# Altium integrated library ARM2toARM3Adapter.IntLib: 7 symbols
Pins are listed as number, name and electrical type; pins without a type are passive.

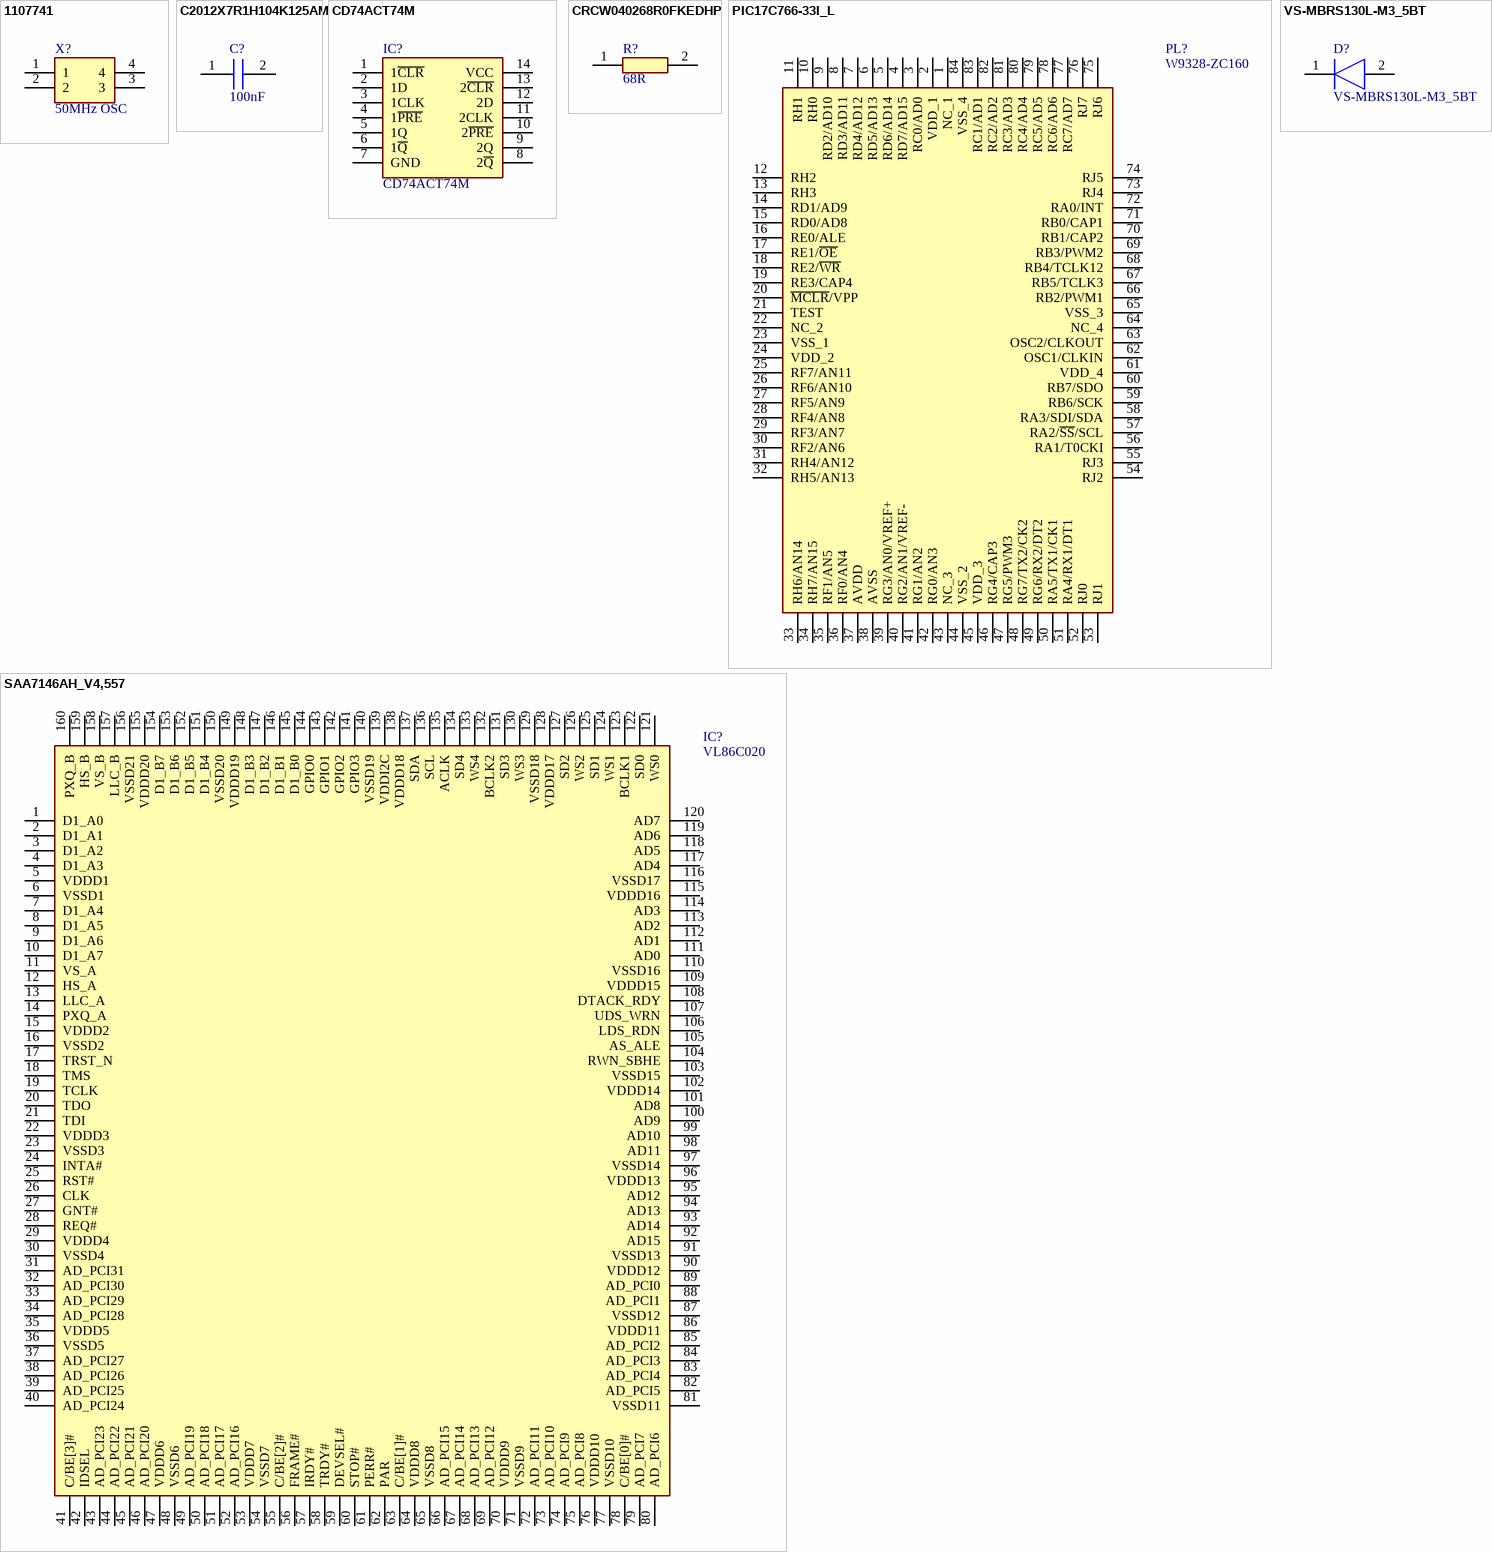
[diagram p0: symbols 1107741 to VS-MBRS130L-M3_5BT]

## 1107741
designator X?, comment 50MHz OSC
Manufacturer_Name: ARIES; Manufacturer_Part_Number: 1107741; Datasheet Link: http://docs-emea.rs-online.com/webdocs/13f3/0900766b813f3237.pdf; Height: 2.41mm; Mouser Part Number: 535-1107741; Mouser Price/Stock: https://www.mouser.co.uk/ProductDetail/Aries-Electronics/1107741?qs=WZRMhwwaLl%2FApwqojhfzdA%3D%3D
footprint DIPS762W56P1524L1778H241Q4N
pins: 1, 2, 3, 4

## C2012X7R1H104K125AM
designator C?, comment 100nF
Capacitor; Manufacturer_Name: TDK; Manufacturer_Part_Number: C2012X7R1H104K125AM; Datasheet Link: https://product.tdk.com/info/en/catalog/datasheets/mlcc_commercial_midvoltage_en.pdf; Height: 1.45mm; Mouser Part Number: 810-C2012X7R1H104KT5; Mouser Price/Stock: https://www.mouser.com/Search/Refine.aspx?Keyword=810-C2012X7R1H104KT5; Arrow Part Number: C2012X7R1H104K125AM; Arrow Price/Stock: https://www.arrow.com/en/products/c2012x7r1h104k125am/tdk
footprint CAPC2012X145N
pins: 1, 2

## CD74ACT74M
designator IC?
Integrated Circuit; Manufacturer_Name: Texas Instruments; Datasheet Link: http://www.ti.com/lit/ds/symlink/cd74act74.pdf; Height: 1.75mm; Manufacturer_Part_Number: CD74ACT74M; Mouser Part Number: 595-CD74ACT74M; Mouser Price/Stock: https://www.mouser.com/Search/Refine.aspx?Keyword=595-CD74ACT74M
footprint SOIC127P600X175-14N
pins: 1 1~{CLR}, 2 1D, 3 1CLK, 4 1~{PRE}, 5 1Q, 6 1~{Q}, 7 GND, 8 2~{Q}, 9 2Q, 10 2~{PRE}, 11 2CLK, 12 2D, 13 2~{CLR}, 14 VCC

## CRCW040268R0FKEDHP
designator R?, comment 68R
Resistor; Manufacturer_Name: Vishay; Manufacturer_Part_Number: CRCW040268R0FKEDHP; Datasheet Link: http://www.vishay.com/docs/20035/dcrcwe3.pdf; Height: 0.4mm; Mouser Part Number: 71-CRCW040268R0FKEDH; Mouser Price/Stock: https://www.mouser.co.uk/ProductDetail/Vishay-Dale/CRCW040268R0FKEDHP?qs=YaA%252B3EhhSt26vU44iyW%252BOw%3D%3D; Arrow Part Number: CRCW040268R0FKEDHP; Arrow Price/Stock: https://www.arrow.com/en/products/crcw040268r0fkedhp/vishay
footprint RESC1005X40N
pins: 1, 2

## PIC17C766-33I_L
designator PL?, comment W9328-ZC160
Integrated Circuit; Manufacturer_Name: Microchip; Manufacturer_Part_Number: PIC17C766-33I/L; Datasheet Link: http://ww1.microchip.com/downloads/en/DeviceDoc/30289C.pdf; Height: 5.08mm; Mouser Part Number: 579-PIC17C766-33I/L; Mouser Price/Stock: https://www.mouser.co.uk/ProductDetail/Microchip-Technology/PIC17C766-33I-L?qs=hul3WK2zl4oVyJslf52qIw%3D%3D
footprint PLCC127P3023X3023X508-84N; pin to pad 2>84 3>83 4>82 5>81 6>80 7>79 8>78 9>77 10>76 11>75 12>74 13>73 14>72 15>71 16>70 17>69 18>68 19>67 20>66 21>65 22>64 23>63 24>62 25>61 26>60 27>59 28>58 29>57 30>56 31>55 32>54 33>53 34>52 35>51 36>50 37>49 38>48 39>47 40>46 41>45 42>44 44>42 45>41 46>40 47>39 48>38 49>37 50>36 51>35 52>34 53>33 54>32 55>31 56>30 57>29 58>28 59>27 60>26 61>25 62>24 63>23 64>22 65>21 66>20 67>19 68>18 69>17 70>16 71>15 72>14 73>13 74>12 75>11 76>10 77>9 78>8 79>7 80>6 81>5 82>4 83>3 84>2
pins: 1 NC_1, 2 VDD_1, 3 RC0/AD0, 4 RD7/AD15, 5 RD6/AD14, 6 RD5/AD13, 7 RD4/AD12, 8 RD3/AD11, 9 RD2/AD10, 10 RH0, 11 RH1, 12 RH2, 13 RH3, 14 RD1/AD9, 15 RD0/AD8, 16 RE0/ALE, 17 RE1/~{OE}, 18 RE2/~{WR}, 19 RE3/CAP4, 20 ~{MCLR}/VPP, 21 TEST, 22 NC_2, 23 VSS_1, 24 VDD_2, 25 RF7/AN11, 26 RF6/AN10, 27 RF5/AN9, 28 RF4/AN8, 29 RF3/AN7, 30 RF2/AN6, 31 RH4/AN12, 32 RH5/AN13, 33 RH6/AN14, 34 RH7/AN15, 35 RF1/AN5, 36 RF0/AN4, 37 AVDD, 38 AVSS, 39 RG3/AN0/VREF+, 40 RG2/AN1/VREF-, 41 RG1/AN2, 42 RG0/AN3, 43 NC_3, 44 VSS_2, 45 VDD_3, 46 RG4/CAP3, 47 RG5/PWM3, 48 RG7/TX2/CK2, 49 RG6/RX2/DT2, 50 RA5/TX1/CK1, 51 RA4/RX1/DT1, 52 RJ0, 53 RJ1, 54 RJ2, 55 RJ3, 56 RA1/T0CKI, 57 RA2/~{SS}/SCL, 58 RA3/SDI/SDA, 59 RB6/SCK, 60 RB7/SDO, 61 VDD_4, 62 OSC1/CLKIN, 63 OSC2/CLKOUT, 64 NC_4, 65 VSS_3, 66 RB2/PWM1, 67 RB5/TCLK3, 68 RB4/TCLK12, 69 RB3/PWM2, 70 RB1/CAP2, 71 RB0/CAP1, 72 RA0/INT, 73 RJ4, 74 RJ5, 75 RJ6, 76 RJ7, 77 RC7/AD7, 78 RC6/AD6, 79 RC5/AD5, 80 RC4/AD4, 81 RC3/AD3, 82 RC2/AD2, 83 RC1/AD1, 84 VSS_4

## SAA7146AH_V4,557
designator IC?, comment VL86C020
ARM3; Manufacturer_Name: Nexperia; Manufacturer_Part_Number: SAA7146AH/V4,557; Datasheet Link: https://www.nxp.com/docs/en/data-sheet/SAA7146A.pdf; Height: 4.07mm; Mouser Part Number: 771-SAA7146AHBB; Mouser Price/Stock: https://www.mouser.com/Search/Refine.aspx?Keyword=771-SAA7146AHBB
footprint QFP65P3120X3120X407-160N
pins: 1 D1_A0, 2 D1_A1, 3 D1_A2, 4 D1_A3, 5 VDDD1, 6 VSSD1, 7 D1_A4, 8 D1_A5, 9 D1_A6, 10 D1_A7, 11 VS_A, 12 HS_A, 13 LLC_A, 14 PXQ_A, 15 VDDD2, 16 VSSD2, 17 TRST_N, 18 TMS, 19 TCLK, 20 TDO, 21 TDI, 22 VDDD3, 23 VSSD3, 24 INTA#, 25 RST#, 26 CLK, 27 GNT#, 28 REQ#, 29 VDDD4, 30 VSSD4, 31 AD_PCI31, 32 AD_PCI30, 33 AD_PCI29, 34 AD_PCI28, 35 VDDD5, 36 VSSD5, 37 AD_PCI27, 38 AD_PCI26, 39 AD_PCI25, 40 AD_PCI24, 41 C/BE[3]#, 42 IDSEL, 43 AD_PCI23, 44 AD_PCI22, 45 AD_PCI21, 46 AD_PCI20, 47 VDDD6, 48 VSSD6, 49 AD_PCI19, 50 AD_PCI18, 51 AD_PCI17, 52 AD_PCI16, 53 VDDD7, 54 VSSD7, 55 C/BE[2]#, 56 FRAME#, 57 IRDY#, 58 TRDY#, 59 DEVSEL#, 60 STOP#, 61 PERR#, 62 PAR, 63 C/BE[1]#, 64 VDDD8, 65 VSSD8, 66 AD_PCI15, 67 AD_PCI14, 68 AD_PCI13, 69 AD_PCI12, 70 VDDD9, 71 VSSD9, 72 AD_PCI11, 73 AD_PCI10, 74 AD_PCI9, 75 AD_PCI8, 76 VDDD10, 77 VSSD10, 78 C/BE[0]#, 79 AD_PCI7, 80 AD_PCI6, 81 VSSD11, 82 AD_PCI5, 83 AD_PCI4, 84 AD_PCI3, 85 AD_PCI2, 86 VDDD11, 87 VSSD12, 88 AD_PCI1, 89 AD_PCI0, 90 VDDD12, 91 VSSD13, 92 AD15, 93 AD14, 94 AD13, 95 AD12, 96 VDDD13, 97 VSSD14, 98 AD11, 99 AD10, 100 AD9, 101 AD8, 102 VDDD14, 103 VSSD15, 104 RWN_SBHE, 105 AS_ALE, 106 LDS_RDN, 107 UDS_WRN, 108 DTACK_RDY, 109 VDDD15, 110 VSSD16, 111 AD0, 112 AD1, 113 AD2, 114 AD3, 115 VDDD16, 116 VSSD17, 117 AD4, 118 AD5, 119 AD6, 120 AD7, 121 WS0, 122 SD0, 123 BCLK1, 124 WS1, 125 SD1, 126 WS2, 127 SD2, 128 VDDD17, 129 VSSD18, 130 WS3, 131 SD3, 132 BCLK2, 133 WS4, 134 SD4, 135 ACLK, 136 SCL, 137 SDA, 138 VDDD18, 139 VDDI2C, 140 VSSD19, 141 GPIO3, 142 GPIO2, 143 GPIO1, 144 GPIO0, 145 D1_B0, 146 D1_B1, 147 D1_B2, 148 D1_B3, 149 VDDD19, 150 VSSD20, 151 D1_B4, 152 D1_B5, 153 D1_B6, 154 D1_B7, 155 VDDD20, 156 VSSD21, 157 LLC_B, 158 VS_B, 159 HS_B, 160 PXQ_B

## VS-MBRS130L-M3_5BT
designator D?
Diode; Manufacturer_Name: Vishay; Manufacturer_Part_Number: VS-MBRS130L-M3/5BT; Datasheet Link: https://componentsearchengine.com/Datasheets/1/VS-MBRS130L-M3_5BT.pdf; Height: 2.44mm; Mouser Part Number: 78-VS-MBRS130L-M35BT; Mouser Price/Stock: https://www.mouser.co.uk/ProductDetail/Vishay-Semiconductors/VS-MBRS130L-M3-5BT?qs=nc3S1USEIbvSRMgZI0Et1g%3D%3D; Arrow Part Number: VS-MBRS130L-M3/5BT; Arrow Price/Stock: https://www.arrow.com/en/products/vs-mbrs130l-m35bt/vishay
footprint DIOM5436X244N
pins: 1 K, 2 A